# Altium schematic symbol library CAP,Cer,100nF,25VDC,Y5V,0603.Schlib: 1 symbol
Pins are listed as number, name and electrical type; pins without a type are passive.

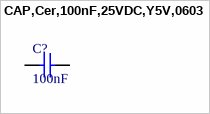
[diagram p0: symbol CAP,Cer,100nF,25VDC,Y5V,0603]

## CAP,Cer,100nF,25VDC,Y5V,0603
designator C?, comment 100nF
CAP CER 0.1UF 25V Y5V 0603
pins: 1, 2